# Altium schematic symbol library CM1223-02SO.SchLib: 1 symbol
Pins are listed as number, name and electrical type; pins without a type are passive.

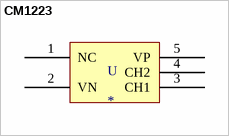
[diagram p0: symbol CM1223]

## CM1223
designator U
footprint SOT23-5 (SOT143-4 as used in SP0503BAHTG)
pins: 1 NC, 2 VN, 3 CH1, 4 CH2, 5 VP